# EAGLE library part LT1125 (library MDB_HOMEBAK)
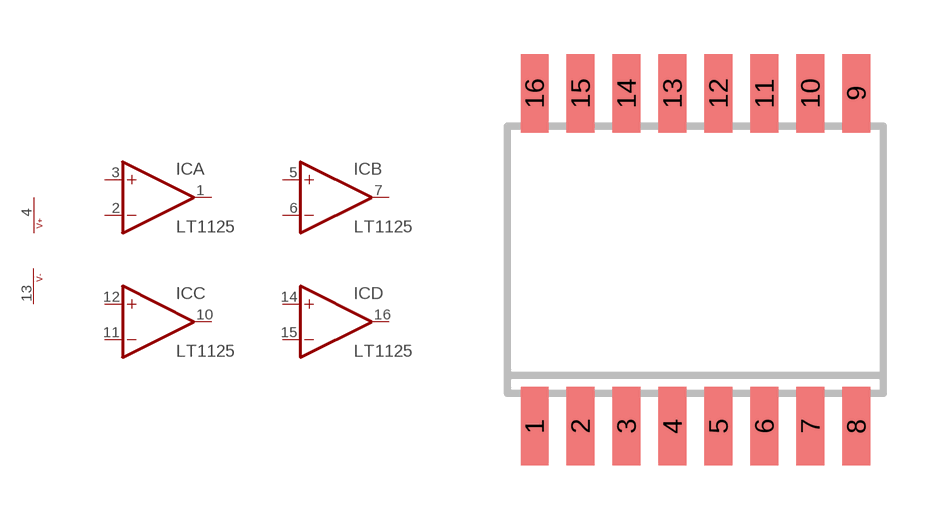
[diagram p44: symbol with the pads of SO16W; footprint SO16W]

Designator prefix IC; gates A=OPAMP B=OPAMP C=OPAMP D=OPAMP G$5=PWR+-

## LT1125SO16W  [SO16W]
1  A:OUT  out
2  A:-IN  in
3  A:+IN  in
4  G$5:V+  pwr
5  B:+IN  in
6  B:-IN  in
7  B:OUT  out
10  C:OUT  out
11  C:-IN  in
12  C:+IN  in
13  G$5:V-  pwr
14  D:+IN  in
15  D:-IN  in
16  D:OUT  out

## Footprint SO16W (pad centres in mm)
SMALL OUTLINE INTEGRATED CIRCUIT wide body 7.5 mm/JEDEC MS-013AA
smd 0.762 x 2.159: 1 -4.445,-4.6; 2 -3.175,-4.6; 3 -1.905,-4.6; 4 -0.635,-4.6; 5 0.635,-4.6; 6 1.905,-4.6; 7 3.175,-4.6; 8 4.445,-4.6; 9 4.445,4.6; 10 3.175,4.6; 11 1.905,4.6; 12 0.635,4.6; 13 -0.635,4.6; 14 -1.905,4.6; 15 -3.175,4.6; 16 -4.445,4.6